# EAGLE library part B20B-PHDSS (library con-jst-phd)
JST PHD series header 2.00mm pitch disconnectable crimp style connectors, vertical (side entry type), 20 pins
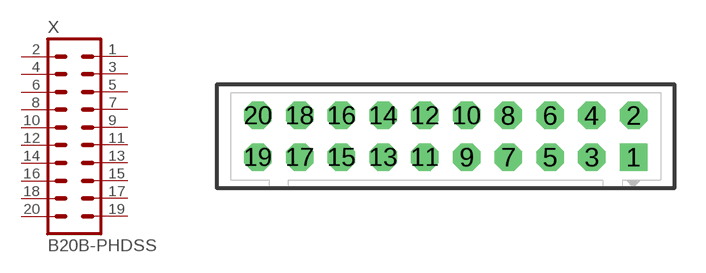
[diagram p6: symbol with the pads of B20B-PHDSS; footprint B20B-PHDSS]

Designator prefix X

## B20B-PHDSS  [B20B-PHDSS]
1  1  pas
2  2  pas
3  3  pas
4  4  pas
5  5  pas
6  6  pas
7  7  pas
8  8  pas
9  9  pas
10  10  pas
11  11  pas
12  12  pas
13  13  pas
14  14  pas
15  15  pas
16  16  pas
17  17  pas
18  18  pas
19  19  pas
20  20  pas

## B20B-PHDSS-B  [B20B-PHDSS]
Pads as for B20B-PHDSS

## Footprint B20B-PHDSS (pad centres in mm)
JST PHD series header 2.00mm pitch disconnectable crimp style connectors, through-hole vertical (top entry type), 20 pins
drill 0.7 pad 1.321 square: 1 9,-1
drill 0.7 pad 1.321 octagon: 2 9,1; 3 7,-1; 4 7,1; 5 5,-1; 6 5,1; 7 3,-1; 8 3,1; 9 1,-1; 10 1,1; 11 -1,-1; 12 -1,1; 13 -3,-1; 14 -3,1; 15 -5,-1; 16 -5,1; 17 -7,-1; 18 -7,1; 19 -9,-1; 20 -9,1